# Altium schematic symbol library Converter_ACDC.SchLib: 158 symbols (part 2 of 2)
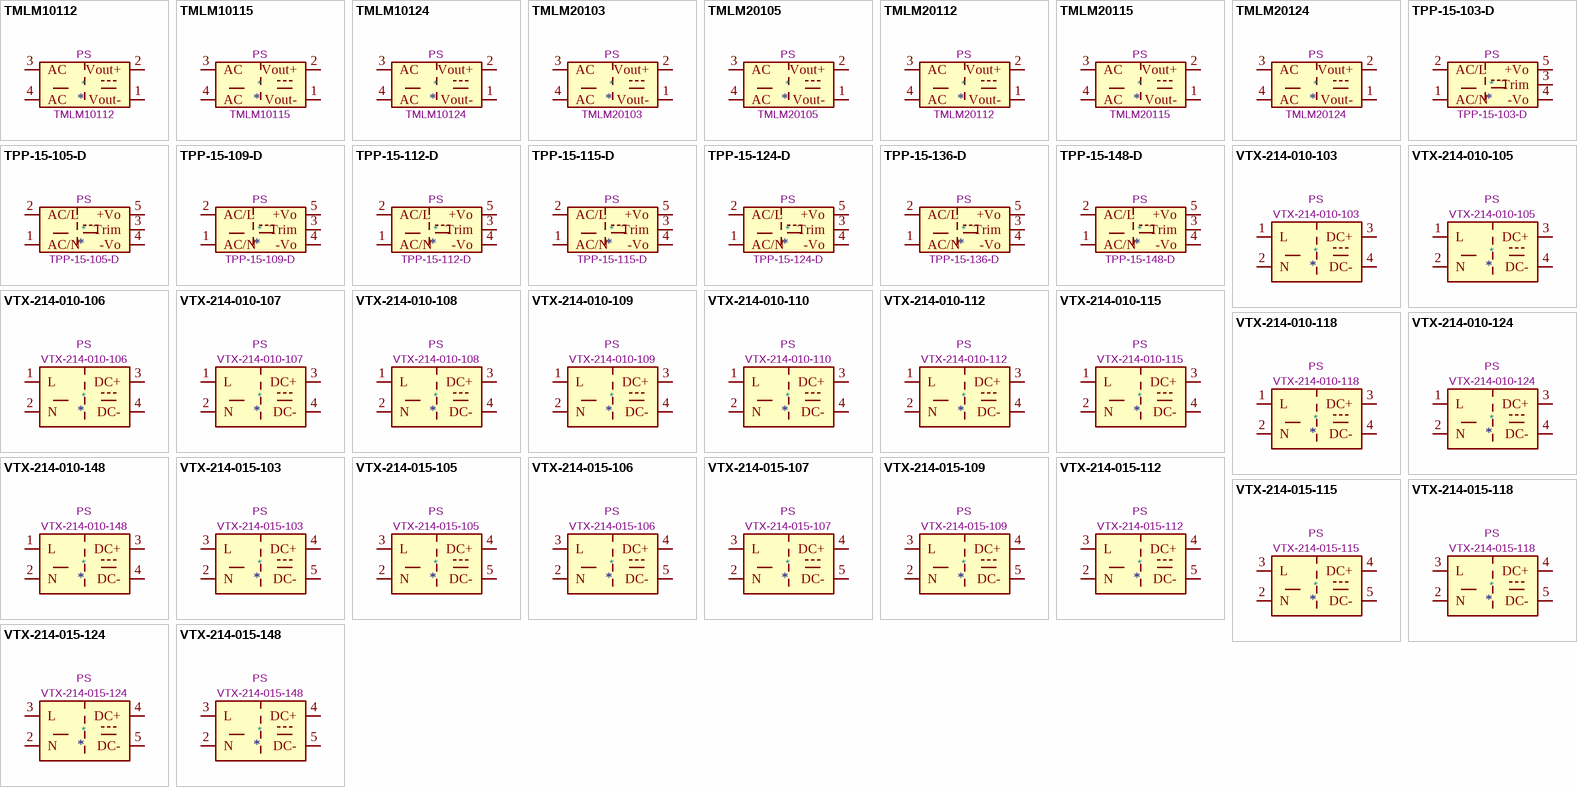
[diagram p4: symbols TMLM10112 to VTX-214-015-148]

## TMLM10112
designator *  value TMLM10112  Reference: PS
ki_keywords: Traco Power 10W AC-DC module power supply; ki_description: 12V 833mA AC/DC low noise power module; ki_fp_filters: Converter*ACDC*TRACO*TMLM*10*; Footprint: Converter_ACDC:Converter_ACDC_TRACO_TMLM-10-20_THT; Datasheet: https://www.tracopower.com/products/tmlm.pdf
pins: 1 Vout-, 2 Vout+, 3 AC, 4 AC

## TMLM10115
designator *  value TMLM10115  Reference: PS
ki_keywords: Traco Power 10W AC-DC module power supply; ki_description: 15V 667mA AC/DC low noise power module; ki_fp_filters: Converter*ACDC*TRACO*TMLM*10*; Footprint: Converter_ACDC:Converter_ACDC_TRACO_TMLM-10-20_THT; Datasheet: https://www.tracopower.com/products/tmlm.pdf
pins: 1 Vout-, 2 Vout+, 3 AC, 4 AC

## TMLM10124
designator *  value TMLM10124  Reference: PS
ki_keywords: Traco Power 10W AC-DC module power supply; ki_description: 24V 417mA AC/DC low noise power module; ki_fp_filters: Converter*ACDC*TRACO*TMLM*10*; Footprint: Converter_ACDC:Converter_ACDC_TRACO_TMLM-10-20_THT; Datasheet: https://www.tracopower.com/products/tmlm.pdf
pins: 1 Vout-, 2 Vout+, 3 AC, 4 AC

## TMLM20103
designator *  value TMLM20103  Reference: PS
ki_keywords: Traco Power 20W AC-DC module power supply; ki_description: 3.3V 3600mA AC/DC low noise power module; ki_fp_filters: Converter*ACDC*TRACO*TMLM*10*; Footprint: Converter_ACDC:Converter_ACDC_TRACO_TMLM-10-20_THT; Datasheet: https://www.tracopower.com/products/tmlm.pdf
pins: 1 Vout-, 2 Vout+, 3 AC, 4 AC

## TMLM20105
designator *  value TMLM20105  Reference: PS
ki_keywords: Traco Power 20W AC-DC module power supply; ki_description: 5V 3600mA AC/DC low noise power module; ki_fp_filters: Converter*ACDC*TRACO*TMLM*10*; Footprint: Converter_ACDC:Converter_ACDC_TRACO_TMLM-10-20_THT; Datasheet: https://www.tracopower.com/products/tmlm.pdf
pins: 1 Vout-, 2 Vout+, 3 AC, 4 AC

## TMLM20112
designator *  value TMLM20112  Reference: PS
ki_keywords: Traco Power 20W AC-DC module power supply; ki_description: 12V 1660mA AC/DC low noise power module; ki_fp_filters: Converter*ACDC*TRACO*TMLM*10*; Footprint: Converter_ACDC:Converter_ACDC_TRACO_TMLM-10-20_THT; Datasheet: https://www.tracopower.com/products/tmlm.pdf
pins: 1 Vout-, 2 Vout+, 3 AC, 4 AC

## TMLM20115
designator *  value TMLM20115  Reference: PS
ki_keywords: Traco Power 20W AC-DC module power supply; ki_description: 12V 1330mA AC/DC low noise power module; ki_fp_filters: Converter*ACDC*TRACO*TMLM*10*; Footprint: Converter_ACDC:Converter_ACDC_TRACO_TMLM-10-20_THT; Datasheet: https://www.tracopower.com/products/tmlm.pdf
pins: 1 Vout-, 2 Vout+, 3 AC, 4 AC

## TMLM20124
designator *  value TMLM20124  Reference: PS
ki_keywords: Traco Power 20W AC-DC module power supply; ki_description: 24V 833mA AC/DC low noise power module; ki_fp_filters: Converter*ACDC*TRACO*TMLM*10*; Footprint: Converter_ACDC:Converter_ACDC_TRACO_TMLM-10-20_THT; Datasheet: https://www.tracopower.com/products/tmlm.pdf
pins: 1 Vout-, 2 Vout+, 3 AC, 4 AC

## TPP-15-103-D
designator *  value TPP-15-103-D  Reference: PS
ki_keywords: Medical Power Supply Traco; ki_description: 3.3V, 4000mA, 15W, Isolated, AC-DC, Traco; ki_fp_filters: Converter*ACDC*TRACO*TPP*15*THT*; Footprint: Converter_ACDC:Converter_ACDC_TRACO_TPP-15-1xx-D_THT; Datasheet: https://www.tracopower.com/sites/default/files/products/datasheets/tpp15_d_datasheet.pdf
pins: 1 AC/N, 2 AC/L, 3 Trim, 4 -Vo, 5 +Vo

## TPP-15-105-D
designator *  value TPP-15-105-D  Reference: PS
ki_keywords: Medical Power Supply Traco; ki_description: 5V, 3000mA, 15W, Isolated, AC-DC, Traco; ki_fp_filters: Converter*ACDC*TRACO*TPP*15*THT*; Footprint: Converter_ACDC:Converter_ACDC_TRACO_TPP-15-1xx-D_THT; Datasheet: https://www.tracopower.com/sites/default/files/products/datasheets/tpp15_d_datasheet.pdf
pins: 1 AC/N, 2 AC/L, 3 Trim, 4 -Vo, 5 +Vo

## TPP-15-109-D
designator *  value TPP-15-109-D  Reference: PS
ki_keywords: Medical Power Supply Traco; ki_description: 9V, 1670mA, 15W, Isolated, AC-DC, Traco; ki_fp_filters: Converter*ACDC*TRACO*TPP*15*THT*; Footprint: Converter_ACDC:Converter_ACDC_TRACO_TPP-15-1xx-D_THT; Datasheet: https://www.tracopower.com/sites/default/files/products/datasheets/tpp15_d_datasheet.pdf
pins: 1 AC/N, 2 AC/L, 3 Trim, 4 -Vo, 5 +Vo

## TPP-15-112-D
designator *  value TPP-15-112-D  Reference: PS
ki_keywords: Medical Power Supply Traco; ki_description: 12V, 1250mA, 15W, Isolated, AC-DC, Traco; ki_fp_filters: Converter*ACDC*TRACO*TPP*15*THT*; Footprint: Converter_ACDC:Converter_ACDC_TRACO_TPP-15-1xx-D_THT; Datasheet: https://www.tracopower.com/sites/default/files/products/datasheets/tpp15_d_datasheet.pdf
pins: 1 AC/N, 2 AC/L, 3 Trim, 4 -Vo, 5 +Vo

## TPP-15-115-D
designator *  value TPP-15-115-D  Reference: PS
ki_keywords: Medical Power Supply Traco; ki_description: 15V, 1000mA, 15W, Isolated, AC-DC, Traco; ki_fp_filters: Converter*ACDC*TRACO*TPP*15*THT*; Footprint: Converter_ACDC:Converter_ACDC_TRACO_TPP-15-1xx-D_THT; Datasheet: https://www.tracopower.com/sites/default/files/products/datasheets/tpp15_d_datasheet.pdf
pins: 1 AC/N, 2 AC/L, 3 Trim, 4 -Vo, 5 +Vo

## TPP-15-124-D
designator *  value TPP-15-124-D  Reference: PS
ki_keywords: Medical Power Supply Traco; ki_description: 24V, 625mA, 15W, Isolated, AC-DC, Traco; ki_fp_filters: Converter*ACDC*TRACO*TPP*15*THT*; Footprint: Converter_ACDC:Converter_ACDC_TRACO_TPP-15-1xx-D_THT; Datasheet: https://www.tracopower.com/sites/default/files/products/datasheets/tpp15_d_datasheet.pdf
pins: 1 AC/N, 2 AC/L, 3 Trim, 4 -Vo, 5 +Vo

## TPP-15-136-D
designator *  value TPP-15-136-D  Reference: PS
ki_keywords: Medical Power Supply Traco; ki_description: 36V, 417mA, 15W, Isolated, AC-DC, Traco; ki_fp_filters: Converter*ACDC*TRACO*TPP*15*THT*; Footprint: Converter_ACDC:Converter_ACDC_TRACO_TPP-15-1xx-D_THT; Datasheet: https://www.tracopower.com/sites/default/files/products/datasheets/tpp15_d_datasheet.pdf
pins: 1 AC/N, 2 AC/L, 3 Trim, 4 -Vo, 5 +Vo

## TPP-15-148-D
designator *  value TPP-15-148-D  Reference: PS
ki_keywords: Medical Power Supply Traco; ki_description: 48V, 313mA, 15W, Isolated, AC-DC, Traco; ki_fp_filters: Converter*ACDC*TRACO*TPP*15*THT*; Footprint: Converter_ACDC:Converter_ACDC_TRACO_TPP-15-1xx-D_THT; Datasheet: https://www.tracopower.com/sites/default/files/products/datasheets/tpp15_d_datasheet.pdf
pins: 1 AC/N, 2 AC/L, 3 Trim, 4 -Vo, 5 +Vo

## VTX-214-010-103
designator *  value VTX-214-010-103  Reference: PS
ki_keywords: 3V 10W AC-DC module power supply; ki_description: 3V Vigortronix 10W ACDC Converters; ki_fp_filters: Converter*ACDC*Vigortronix*VTX*214*010*xxx*; Footprint: Converter_ACDC:Converter_ACDC_Vigortronix_VTX-214-010-xxx_THT; Datasheet: http://www.vigortronix.com/10WattACDCPCBPowerModule.aspx
pins: 1 L, 2 N, 3 DC+, 4 DC-

## VTX-214-010-105
designator *  value VTX-214-010-105  Reference: PS
ki_keywords: 5V 10W AC-DC module power supply; ki_description: 5V Vigortronix 10W ACDC Converters; ki_fp_filters: Converter*ACDC*Vigortronix*VTX*214*010*xxx*; Footprint: Converter_ACDC:Converter_ACDC_Vigortronix_VTX-214-010-xxx_THT; Datasheet: http://www.vigortronix.com/10WattACDCPCBPowerModule.aspx
pins: 1 L, 2 N, 3 DC+, 4 DC-

## VTX-214-010-106
designator *  value VTX-214-010-106  Reference: PS
ki_keywords: 6V 10W AC-DC module power supply; ki_description: 6V Vigortronix 10W ACDC Converters; ki_fp_filters: Converter*ACDC*Vigortronix*VTX*214*010*xxx*; Footprint: Converter_ACDC:Converter_ACDC_Vigortronix_VTX-214-010-xxx_THT; Datasheet: http://www.vigortronix.com/10WattACDCPCBPowerModule.aspx
pins: 1 L, 2 N, 3 DC+, 4 DC-

## VTX-214-010-107
designator *  value VTX-214-010-107  Reference: PS
ki_keywords: 7.5V 10W AC-DC module power supply; ki_description: 7.5V Vigortronix 10W ACDC Converters; ki_fp_filters: Converter*ACDC*Vigortronix*VTX*214*010*xxx*; Footprint: Converter_ACDC:Converter_ACDC_Vigortronix_VTX-214-010-xxx_THT; Datasheet: http://www.vigortronix.com/10WattACDCPCBPowerModule.aspx
pins: 1 L, 2 N, 3 DC+, 4 DC-

## VTX-214-010-108
designator *  value VTX-214-010-108  Reference: PS
ki_keywords: 8V 10W AC-DC module power supply; ki_description: 8V Vigortronix 10W ACDC Converters; ki_fp_filters: Converter*ACDC*Vigortronix*VTX*214*010*xxx*; Footprint: Converter_ACDC:Converter_ACDC_Vigortronix_VTX-214-010-xxx_THT; Datasheet: http://www.vigortronix.com/10WattACDCPCBPowerModule.aspx
pins: 1 L, 2 N, 3 DC+, 4 DC-

## VTX-214-010-109
designator *  value VTX-214-010-109  Reference: PS
ki_keywords: 9V 10W AC-DC module power supply; ki_description: 9V Vigortronix 10W ACDC Converters; ki_fp_filters: Converter*ACDC*Vigortronix*VTX*214*010*xxx*; Footprint: Converter_ACDC:Converter_ACDC_Vigortronix_VTX-214-010-xxx_THT; Datasheet: http://www.vigortronix.com/10WattACDCPCBPowerModule.aspx
pins: 1 L, 2 N, 3 DC+, 4 DC-

## VTX-214-010-110
designator *  value VTX-214-010-110  Reference: PS
ki_keywords: 10V 10W AC-DC module power supply; ki_description: 10V Vigortronix 10W ACDC Converters; ki_fp_filters: Converter*ACDC*Vigortronix*VTX*214*010*xxx*; Footprint: Converter_ACDC:Converter_ACDC_Vigortronix_VTX-214-010-xxx_THT; Datasheet: http://www.vigortronix.com/10WattACDCPCBPowerModule.aspx
pins: 1 L, 2 N, 3 DC+, 4 DC-

## VTX-214-010-112
designator *  value VTX-214-010-112  Reference: PS
ki_keywords: 12V 10W AC-DC module power supply; ki_description: 12V Vigortronix 10W ACDC Converters; ki_fp_filters: Converter*ACDC*Vigortronix*VTX*214*010*xxx*; Footprint: Converter_ACDC:Converter_ACDC_Vigortronix_VTX-214-010-xxx_THT; Datasheet: http://www.vigortronix.com/10WattACDCPCBPowerModule.aspx
pins: 1 L, 2 N, 3 DC+, 4 DC-

## VTX-214-010-115
designator *  value VTX-214-010-115  Reference: PS
ki_keywords: 15V 10W AC-DC module power supply; ki_description: 15V Vigortronix 10W ACDC Converters; ki_fp_filters: Converter*ACDC*Vigortronix*VTX*214*010*xxx*; Footprint: Converter_ACDC:Converter_ACDC_Vigortronix_VTX-214-010-xxx_THT; Datasheet: http://www.vigortronix.com/10WattACDCPCBPowerModule.aspx
pins: 1 L, 2 N, 3 DC+, 4 DC-

## VTX-214-010-118
designator *  value VTX-214-010-118  Reference: PS
ki_keywords: 18V 10W AC-DC module power supply; ki_description: 18V Vigortronix 10W ACDC Converters; ki_fp_filters: Converter*ACDC*Vigortronix*VTX*214*010*xxx*; Footprint: Converter_ACDC:Converter_ACDC_Vigortronix_VTX-214-010-xxx_THT; Datasheet: http://www.vigortronix.com/10WattACDCPCBPowerModule.aspx
pins: 1 L, 2 N, 3 DC+, 4 DC-

## VTX-214-010-124
designator *  value VTX-214-010-124  Reference: PS
ki_keywords: 24V 10W AC-DC module power supply; ki_description: 24V Vigortronix 10W ACDC Converters; ki_fp_filters: Converter*ACDC*Vigortronix*VTX*214*010*xxx*; Footprint: Converter_ACDC:Converter_ACDC_Vigortronix_VTX-214-010-xxx_THT; Datasheet: http://www.vigortronix.com/10WattACDCPCBPowerModule.aspx
pins: 1 L, 2 N, 3 DC+, 4 DC-

## VTX-214-010-148
designator *  value VTX-214-010-148  Reference: PS
ki_keywords: 48V 10W AC-DC module power supply; ki_description: 48V Vigortronix 10W ACDC Converters; ki_fp_filters: Converter*ACDC*Vigortronix*VTX*214*010*xxx*; Footprint: Converter_ACDC:Converter_ACDC_Vigortronix_VTX-214-010-xxx_THT; Datasheet: http://www.vigortronix.com/10WattACDCPCBPowerModule.aspx
pins: 1 L, 2 N, 3 DC+, 4 DC-

## VTX-214-015-103
designator *  value VTX-214-015-103  Reference: PS
ki_keywords: 3V 15W AC-DC module power supply; ki_description: 3V Vigortronix 15W ACDC Converters; ki_fp_filters: Converter*ACDC*Vigortronix*VTX*214*015*1xx*; Footprint: Converter_ACDC:Converter_ACDC_Vigortronix_VTX-214-015-1xx_THT; Datasheet: http://www.vigortronix.com/15WattSMPSPCBModuleAC-DC
pins: 1 FG hidden, 2 N, 3 L, 4 DC+, 5 DC-

## VTX-214-015-105
designator *  value VTX-214-015-105  Reference: PS
ki_keywords: 5V 15W AC-DC module power supply; ki_description: 5V Vigortronix 15W ACDC Converters; ki_fp_filters: Converter*ACDC*Vigortronix*VTX*214*015*1xx*; Footprint: Converter_ACDC:Converter_ACDC_Vigortronix_VTX-214-015-1xx_THT; Datasheet: http://www.vigortronix.com/15WattSMPSPCBModuleAC-DC
pins: 1 FG hidden, 2 N, 3 L, 4 DC+, 5 DC-

## VTX-214-015-106
designator *  value VTX-214-015-106  Reference: PS
ki_keywords: 6V 15W AC-DC module power supply; ki_description: 6V Vigortronix 15W ACDC Converters; ki_fp_filters: Converter*ACDC*Vigortronix*VTX*214*015*1xx*; Footprint: Converter_ACDC:Converter_ACDC_Vigortronix_VTX-214-015-1xx_THT; Datasheet: http://www.vigortronix.com/15WattSMPSPCBModuleAC-DC
pins: 1 FG hidden, 2 N, 3 L, 4 DC+, 5 DC-

## VTX-214-015-107
designator *  value VTX-214-015-107  Reference: PS
ki_keywords: 7V 15W AC-DC module power supply; ki_description: 7V Vigortronix 15W ACDC Converters; ki_fp_filters: Converter*ACDC*Vigortronix*VTX*214*015*1xx*; Footprint: Converter_ACDC:Converter_ACDC_Vigortronix_VTX-214-015-1xx_THT; Datasheet: http://www.vigortronix.com/15WattSMPSPCBModuleAC-DC
pins: 1 FG hidden, 2 N, 3 L, 4 DC+, 5 DC-

## VTX-214-015-109
designator *  value VTX-214-015-109  Reference: PS
ki_keywords: 9V 15W AC-DC module power supply; ki_description: 9V Vigortronix 15W ACDC Converters; ki_fp_filters: Converter*ACDC*Vigortronix*VTX*214*015*1xx*; Footprint: Converter_ACDC:Converter_ACDC_Vigortronix_VTX-214-015-1xx_THT; Datasheet: http://www.vigortronix.com/15WattSMPSPCBModuleAC-DC
pins: 1 FG hidden, 2 N, 3 L, 4 DC+, 5 DC-

## VTX-214-015-112
designator *  value VTX-214-015-112  Reference: PS
ki_keywords: 12V 15W AC-DC module power supply; ki_description: 12V Vigortronix 15W ACDC Converters; ki_fp_filters: Converter*ACDC*Vigortronix*VTX*214*015*1xx*; Footprint: Converter_ACDC:Converter_ACDC_Vigortronix_VTX-214-015-1xx_THT; Datasheet: http://www.vigortronix.com/15WattSMPSPCBModuleAC-DC
pins: 1 FG hidden, 2 N, 3 L, 4 DC+, 5 DC-

## VTX-214-015-115
designator *  value VTX-214-015-115  Reference: PS
ki_keywords: 15V 15W AC-DC module power supply; ki_description: 15V Vigortronix 15W ACDC Converters; ki_fp_filters: Converter*ACDC*Vigortronix*VTX*214*015*1xx*; Footprint: Converter_ACDC:Converter_ACDC_Vigortronix_VTX-214-015-1xx_THT; Datasheet: http://www.vigortronix.com/15WattSMPSPCBModuleAC-DC
pins: 1 FG hidden, 2 N, 3 L, 4 DC+, 5 DC-

## VTX-214-015-118
designator *  value VTX-214-015-118  Reference: PS
ki_keywords: 18V 15W AC-DC module power supply; ki_description: 18V Vigortronix 15W ACDC Converters; ki_fp_filters: Converter*ACDC*Vigortronix*VTX*214*015*1xx*; Footprint: Converter_ACDC:Converter_ACDC_Vigortronix_VTX-214-015-1xx_THT; Datasheet: http://www.vigortronix.com/15WattSMPSPCBModuleAC-DC
pins: 1 FG hidden, 2 N, 3 L, 4 DC+, 5 DC-

## VTX-214-015-124
designator *  value VTX-214-015-124  Reference: PS
ki_keywords: 24V 15W AC-DC module power supply; ki_description: 24V Vigortronix 15W ACDC Converters; ki_fp_filters: Converter*ACDC*Vigortronix*VTX*214*015*1xx*; Footprint: Converter_ACDC:Converter_ACDC_Vigortronix_VTX-214-015-1xx_THT; Datasheet: http://www.vigortronix.com/15WattSMPSPCBModuleAC-DC
pins: 1 FG hidden, 2 N, 3 L, 4 DC+, 5 DC-

## VTX-214-015-148
designator *  value VTX-214-015-148  Reference: PS
ki_keywords: 48V 15W AC-DC module power supply; ki_description: 48V Vigortronix 15W ACDC Converters; ki_fp_filters: Converter*ACDC*Vigortronix*VTX*214*015*1xx*; Footprint: Converter_ACDC:Converter_ACDC_Vigortronix_VTX-214-015-1xx_THT; Datasheet: http://www.vigortronix.com/15WattSMPSPCBModuleAC-DC
pins: 1 FG hidden, 2 N, 3 L, 4 DC+, 5 DC-